# EAGLE library part 61304421121 (library Wurth_Elektronik_Electromechanic_Board_to_Board_Connectors_rev16a)
WR-PHD 2.54mm Dual Pin Header, 44 Pins =>Code : Con_BTB_PHD_2.54_2_61304421121 <http://katalog.we-online.de/media/images/eican/Con_BTB_PHD_2.54_2_6130xx21121_pf2.jpg> Details see: http://katalog.we-online.de/en/em/613_0xx_211_21 Created 2014-05-29, Karrer Zheng 2014 (C) Würth Elektronik
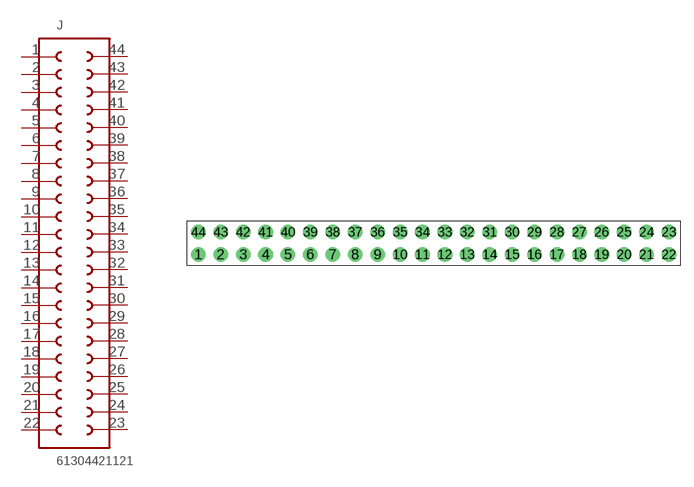
[diagram p35: symbol with the pads of 61304421121; footprint 61304421121]

Designator prefix J

## 61304421121  [61304421121]
1  1  pas
2  2  pas
3  3  pas
4  4  pas
5  5  pas
6  6  pas
7  7  pas
8  8  pas
9  9  pas
10  10  pas
11  11  pas
12  12  pas
13  13  pas
14  14  pas
15  15  pas
16  16  pas
17  17  pas
18  18  pas
19  19  pas
20  20  pas
21  21  pas
22  22  pas
23  23  pas
24  24  pas
25  25  pas
26  26  pas
27  27  pas
28  28  pas
29  29  pas
30  30  pas
31  31  pas
32  32  pas
33  33  pas
34  34  pas
35  35  pas
36  36  pas
37  37  pas
38  38  pas
39  39  pas
40  40  pas
41  41  pas
42  42  pas
43  43  pas
44  44  pas

## Footprint 61304421121 (pad centres in mm)
WR-PHD 2.54mm Dual Pin Header, 40 Pins
drill 1.1: 1 -26.67,-1.27; 2 -24.13,-1.27; 3 -21.59,-1.27; 4 -19.05,-1.27; 5 -16.51,-1.27; 6 -13.97,-1.27; 7 -11.43,-1.27; 8 -8.89,-1.27; 9 -6.35,-1.27; 10 -3.81,-1.27; 11 -1.27,-1.27; 12 1.27,-1.27; 13 3.81,-1.27; 14 6.35,-1.27; 15 8.89,-1.27; 16 11.43,-1.27; 17 13.97,-1.27; 18 16.51,-1.27; 19 19.05,-1.27; 20 21.59,-1.27; 21 24.13,-1.27; 22 26.67,-1.27; 23 26.67,1.27; 24 24.13,1.27; 25 21.59,1.27; 26 19.05,1.27; 27 16.51,1.27; 28 13.97,1.27; 29 11.43,1.27; 30 8.89,1.27; 31 6.35,1.27; 32 3.81,1.27; 33 1.27,1.27; 34 -1.27,1.27; 35 -3.81,1.27; 36 -6.35,1.27; 37 -8.89,1.27; 38 -11.43,1.27; 39 -13.97,1.27; 40 -16.51,1.27; 41 -19.05,1.27; 42 -21.59,1.27; 43 -24.13,1.27; 44 -26.67,1.27